# EAGLE library part 282834-11 (library con-tyco)
TERMINAL BLOCK
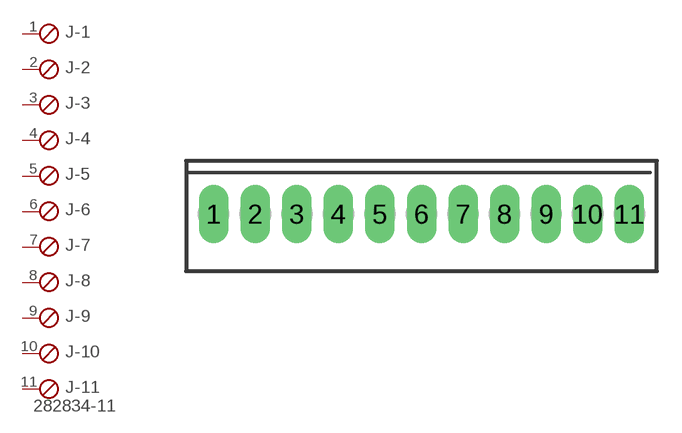
[diagram p16: symbol with the pads of 282834-11; footprint 282834-11]

Designator prefix J; gates -1=SKB -2=SKB -3=SKB -4=SKB -5=SKB -6=SKB -7=SKB -8=SKB -9=SKB -10=SKB -11=SKBV

## 282834-11  [282834-11]
1  -1:1  pas
2  -2:1  pas
3  -3:1  pas
4  -4:1  pas
5  -5:1  pas
6  -6:1  pas
7  -7:1  pas
8  -8:1  pas
9  -9:1  pas
10  -10:1  pas
11  -11:1  pas

## Footprint 282834-11 (pad centres in mm)
PHOENIX CONNECTOR
drill 1.194 long: 1 -12.7,0; 2 -10.16,0; 3 -7.62,0; 4 -5.08,0; 5 -2.54,0; 6 0,0; 7 2.54,0; 8 5.08,0; 9 7.62,0; 10 10.16,0; 11 12.7,0